# Altium schematic symbol library capacitors.SchLib: 48 symbols
Pins are listed as number, name and electrical type; pins without a type are passive.

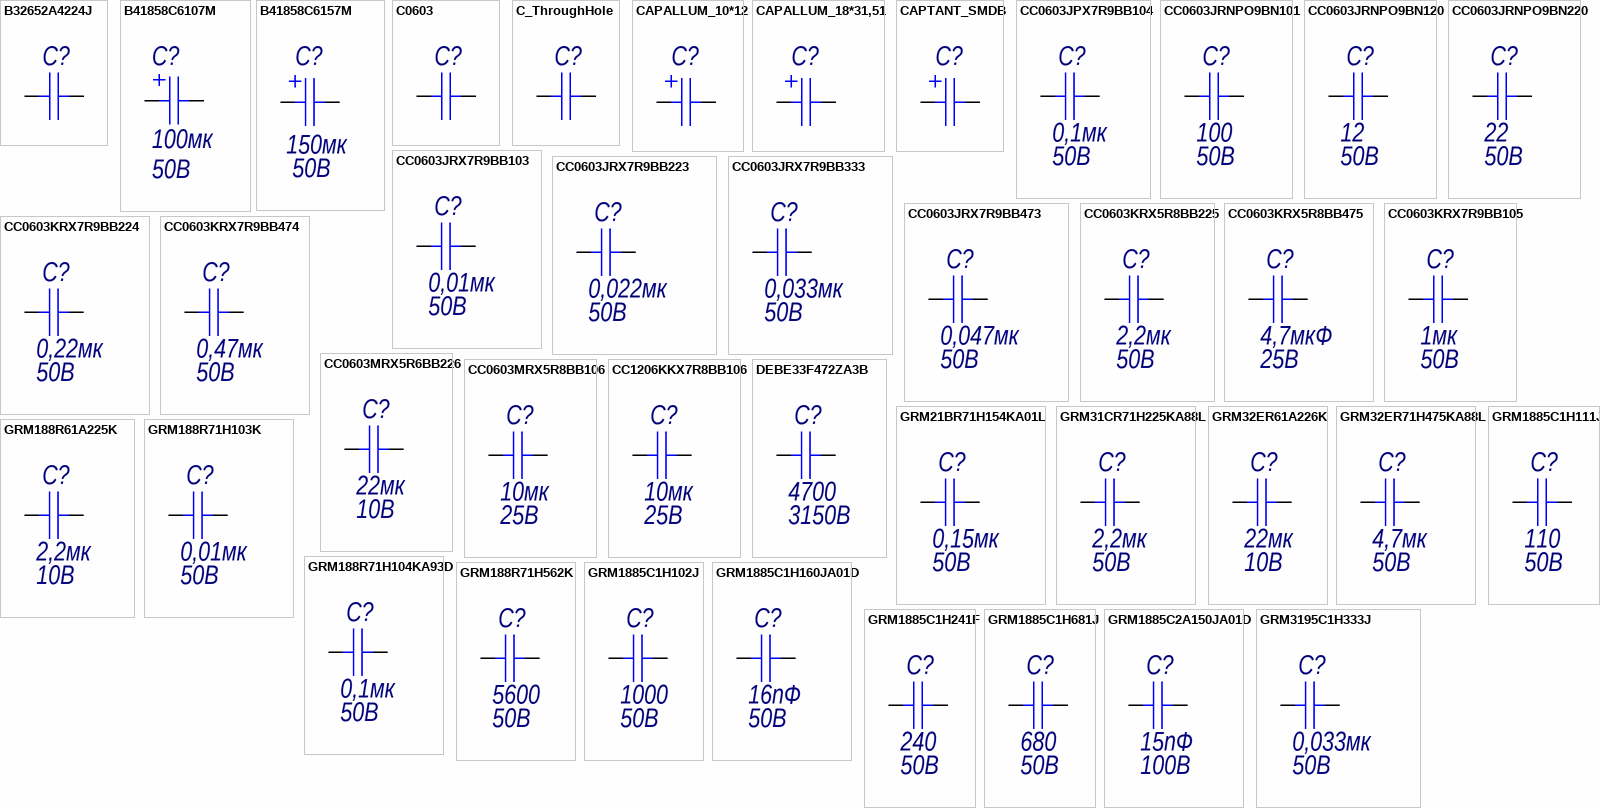
[diagram p0: symbols B32652A4224J to GRM3195C1H333J]

## B32652A4224J
designator C?, comment 0,22мк  (value not drawn)
Конденсатор керамический выводной корпусной; Manufacturer: TDK Epcos; Name: B32652A4224J; Voltage: 400В; TKE: -; Value: 0,22мк
footprint B32652-7x12.5x18 (Конденсатор керамический)
pins: 1, 2

## B41858C6107M
designator C?, comment Voltage: 50В  (hidden comment: 100мк)
Конденсатор эл.лит. алюм. 100мкФ 50В; Manufacturer: EPCOS; Name: B41858C6107; ESR: 0,6Ом; Value: 100мк
footprint CAPALUM_8x11.5 (Электролитический алюминиевый конденсатор с радиальными выводами 8*11.5мм)
footprint CAPALUM_8x11.5_V (Электролитический алюминиевый конденсатор с радиальными выводами 8*11.5мм)
footprint SK050M0100B3F-0811 (8?11)
pins: 1, 2

## B41858C6157M
designator C?, comment Voltage: 50В  (hidden comment: 150мк)
Конденсатор эл.лит. алюм. 150мкФ 50В; Manufacturer: EPCOS; Name: B41858C6157M; ESR: 0,3Ом; Value: 150мк
footprint CAPALUM_10x12.5 (Электролитический алюминиевый конденсатор с радиальными выводами 10*12.5мм)
pins: 1, 2

## C0603
designator C?, comment -  (value not drawn)
Конденсатор керамический 0603; Name: -; Manufacturer: -; TKE: -; Value: -; Voltage: -
footprint C0603 (Chip Capacitor, 2-Leads, Body 1,60x0,80mm, IPC Medium Density)
pins: 1, 2

## C_ThroughHole
designator C?, comment -  (value not drawn)
Конденсатор керамический выводной; Name: -; Manufacturer: -; TKE: -; Value: -; Voltage: -
pins: 1, 2

## CAPALLUM_10*12
designator C?, comment -  (value not drawn)
Конденсатор эл.лит. алюм. 10x12; Name: -; Manufacturer: -; ESR: -; Value: -; Voltage: -
pins: 1, 2

## CAPALLUM_18*31,51
designator C?, comment -  (value not drawn)
Конденсатор эл.лит. алюм. 18x31,5; Name: -; Manufacturer: -; ESR: -; Value: -; Voltage: -
footprint CAPALUM_18x31.5 (Электролитический алюминиевый конденсатор с радиальными выводами 18*31.5мм)
pins: 1, 2

## CAPTANT_SMDB
designator C?, comment -  (value not drawn)
Конденсатор танталовый в корпусе SMDB; Name: -; Manufacturer: -; ESR: -; Value: -; Voltage: -
footprint CAPTANT_B (Chip Capacitor, 2-Leads, Body 3,50x2,80mm, IPC Medium Density)
pins: 1, 2

## CC0603JPX7R9BB104
designator C?, comment Voltage: 50В  (hidden comment: 0,1мк)
Конденсатор кер. 0,1мкФ 50В; Manufacturer: Yageo; Name: CC0603JPX7R9BB104; TKE: X7R; Value: 0,1мк
footprint C0603 (Chip Capacitor, 2-Leads, Body 1,60x0,80mm, IPC Medium Density)
pins: 1, 2

## CC0603JRNPO9BN101
designator C?, comment Voltage: 50В  (hidden comment: 100)
Конденсатор кер. 100пФ 50В; Manufacturer: Yageo; Name: CC0603JRNPO9BN101; TKE: NP0; Value: 100
footprint C0603 (Chip Capacitor, 2-Leads, Body 1,60x0,80mm, IPC Medium Density)
pins: 1, 2

## CC0603JRNPO9BN120
designator C?, comment Voltage: 50В  (hidden comment: 12)
Конденсатор кер. 12пФ 50В; Manufacturer: Yageo; Name: CC0603JRNPO9BN120; TKE: NP0; Value: 12
footprint C0603 (Chip Capacitor, 2-Leads, Body 1,60x0,80mm, IPC Medium Density)
pins: 1, 2

## CC0603JRNPO9BN220
designator C?, comment Voltage: 50В  (hidden comment: 22)
Конденсатор кер. 22пФ 50В; Manufacturer: Yageo; Name: CC0603JRNPO9BN220; TKE: NP0; Value: 22
footprint C0603 (Chip Capacitor, 2-Leads, Body 1,60x0,80mm, IPC Medium Density)
pins: 1, 2

## CC0603JRX7R9BB103
designator C?, comment Voltage: 50В  (hidden comment: 0,01мк)
Конденсатор кер. 0,01мкФ 50В; Manufacturer: Yageo; Name: CC0603JRX7R9BB103; TKE: X7R; Value: 0,01мк
footprint C0603 (Chip Capacitor, 2-Leads, Body 1,60x0,80mm, IPC Medium Density)
pins: 1, 2

## CC0603JRX7R9BB223
designator C?, comment Voltage: 50В  (hidden comment: 0,022мк)
Конденсатор кер. 0,022мкФ 50В; Manufacturer: Yageo; Name: CC0603JRX7R9BB223; TKE: X7R; Value: 0,022мк
footprint C0603 (Chip Capacitor, 2-Leads, Body 1,60x0,80mm, IPC Medium Density)
pins: 1, 2

## CC0603JRX7R9BB333
designator C?, comment Voltage: 50В  (hidden comment: 0,033мк)
Конденсатор кер. 0,033мкФ 50В; Manufacturer: Yageo; Name: CC0603JRX7R9BB333; TKE: X7R; Value: 0,033мк
footprint C0603 (Chip Capacitor, 2-Leads, Body 1,60x0,80mm, IPC Medium Density)
pins: 1, 2

## CC0603JRX7R9BB473
designator C?, comment Voltage: 50В  (hidden comment: 0,047мк)
Конденсатор кер. 0,047мкФ 50В; Manufacturer: Yageo; Name: CC0603JRX7R9BB473; TKE: X7R; Value: 0,047мк
footprint C0603 (Chip Capacitor, 2-Leads, Body 1,60x0,80mm, IPC Medium Density)
pins: 1, 2

## CC0603KRX5R8BB225
designator C?, comment Voltage: 50В  (hidden comment: 2,2мк)
Конденсатор кер. 2,2мкФ 25В; Manufacturer: Yageo; Name: CC0603KRX5R8BB225; TKE: X5R; Value: 2,2мк
footprint C0603 (Chip Capacitor, 2-Leads, Body 1,60x0,80mm, IPC Medium Density)
pins: 1, 2

## CC0603KRX5R8BB475
designator C?, comment Voltage: 25В  (hidden comment: 4,7мкФ)
Конденсатор кер. 4,7мкФ 25В; Manufacturer: Yageo; Name: CC0603KRX5R8BB475; TKE: X7R; Value: 4,7мкФ
footprint C0603 (Chip Capacitor, 2-Leads, Body 1,60x0,80mm, IPC Medium Density)
pins: 1, 2

## CC0603KRX7R9BB105
designator C?, comment Voltage: 50В  (hidden comment: 1мк)
Конденсатор кер. 1мкФ 50В; Manufacturer: Yageo; Name: CC0603KRX7R9BB105; TKE: X7R; Value: 1мк
footprint C0603 (Chip Capacitor, 2-Leads, Body 1,60x0,80mm, IPC Medium Density)
pins: 1, 2

## CC0603KRX7R9BB224
designator C?, comment Voltage: 50В  (hidden comment: 0,22мк)
Конденсатор кер. 0,22мкФ 50В; Manufacturer: Yageo; Name: CC0603KRX7R9BB224; TKE: X7R; Value: 0,22мк
footprint C0603 (Chip Capacitor, 2-Leads, Body 1,60x0,80mm, IPC Medium Density)
pins: 1, 2

## CC0603KRX7R9BB474
designator C?, comment Voltage: 50В  (hidden comment: 0,47мк)
Конденсатор кер. 0,47мкФ 50В; Manufacturer: Yageo; Name: CC0603KRX7R9BB474; TKE: X7R; Value: 0,47мк
footprint C0603 (Chip Capacitor, 2-Leads, Body 1,60x0,80mm, IPC Medium Density)
pins: 1, 2

## CC0603MRX5R6BB226
designator C?, comment Voltage: 10В  (hidden comment: 22мк)
Конденсатор кер. 22мкФ 10В; Manufacturer: Yageo; Name: CC0603MRX5R6BB226; TKE: X7R; Value: 22мк
footprint C0603 (Chip Capacitor, 2-Leads, Body 1,60x0,80mm, IPC Medium Density)
pins: 1, 2

## CC0603MRX5R8BB106
designator C?, comment Voltage: 25В  (hidden comment: 10мк)
Конденсатор кер. 10мкФ 25В; Manufacturer: Yageo; Name: CC0603MRX5R8BB106; TKE: X7R; Value: 10мк
footprint C0603 (Chip Capacitor, 2-Leads, Body 1,60x0,80mm, IPC Medium Density)
pins: 1, 2

## CC1206KKX7R8BB106
designator C?, comment Voltage: 25В  (hidden comment: 10мк)
Конденсатор кер. 10мкФ 25В; Manufacturer: Yageo; Name: CC1206KKX7R8BB106; TKE: X7R; Value: 10мк
footprint C1206 (Chip Capacitor, 2-Leads, Body 3,20x1,60mm, IPC Medium Density)
pins: 1, 2

## DEBE33F472ZA3B
designator C?, comment Voltage: 3150В  (hidden comment: 4700)
Конденсатор керамический высоковольтный выводной; Manufacturer: Murata; Name: DEBE33F472ZA3B; TKE: -; Value: 4700
pins: 1, 2

## GRM21BR71H154KA01L
designator C?, comment Voltage: 50В  (hidden comment: 0,15мк)
Конденсатор кер. 0,15мкФ 50В X7R; Manufacturer: Murata; Name: GRM21BR71H154KA01L; TKE: X7R; Value: 0,15мк
footprint C0603 (Chip Capacitor, 2-Leads, Body 1,60x0,80mm, IPC Medium Density)
pins: 1, 2

## GRM31CR71H225KA88L
designator C?, comment Voltage: 50В  (hidden comment: 2,2мк)
Конденсатор кер. 2,2мкФ 50В X7R; Manufacturer: Murata; Name: GRM31CR71H225KA88L; TKE: X7R; Value: 2,2мк
pins: 1, 2

## GRM32ER61A226K
designator C?, comment Voltage: 10В  (hidden comment: 22мк)
Конденсатор кер. 22мкФ 10В X5R; Manufacturer: Murata; Name: GRM32ER61A226K; TKE: X5R; Value: 22мк
footprint C1210 (Chip Capacitor, 2-Leads, Body 3,20x2,50mm, IPC Medium Density)
pins: 1, 2

## GRM32ER71H475KA88L
designator C?, comment Voltage: 50В  (hidden comment: 4,7мк)
Конденсатор кер. 4,7мкФ 50В X7R; Manufacturer: Murata; Name: GRM32ER71H475KA88L; TKE: X7R; Value: 4,7мк
footprint C1210 (Chip Capacitor, 2-Leads, Body 3,20x2,50mm, IPC Medium Density)
pins: 1, 2

## GRM188R61A225K
designator C?, comment Voltage: 10В  (hidden comment: 2,2мк)
Конденсатор кер. 2,2мкФ 10В X5R; Manufacturer: Murata; Name: GRM188R61A225K; TKE: X5R; Value: 2,2мк
footprint C0603 (Chip Capacitor, 2-Leads, Body 1,60x0,80mm, IPC Medium Density)
pins: 1, 2

## GRM188R71H103K
designator C?, comment Voltage: 50В  (hidden comment: 0,01мк)
Конденсатор кер. 0,01мкФ 50В X7R; Manufacturer: Murata; Name: GRM188R71H103K; TKE: X7R; Value: 0,01мк
footprint C0603 (Chip Capacitor, 2-Leads, Body 1,60x0,80mm, IPC Medium Density)
pins: 1, 2

## GRM188R71H104KA93D
designator C?, comment Voltage: 50В  (hidden comment: 0,1мк)
Конденсатор кер. 0,1мкФ 50В X7R; Manufacturer: Murata; Name: GRM188R71H104KA93D; TKE: X7R; Value: 0,1мк
footprint C0603 (Chip Capacitor, 2-Leads, Body 1,60x0,80mm, IPC Medium Density)
pins: 1, 2

## GRM188R71H562K
designator C?, comment Voltage: 50В  (hidden comment: 5600)
Конденсатор кер. 5600пФ 50В X7R; Manufacturer: Murata; Name: GRM188R71H562K; TKE: X7R; Value: 5600
footprint C0603 (Chip Capacitor, 2-Leads, Body 1,60x0,80mm, IPC Medium Density)
pins: 1, 2

## GRM1885C1H102J
designator C?, comment Voltage: 50В  (hidden comment: 1000)
Конденсатор кер. 1000пФ 50В NP0; Manufacturer: Murata; Name: GRM1885C1H102J; TKE: NP0; Value: 1000
footprint C0603 (Chip Capacitor, 2-Leads, Body 1,60x0,80mm, IPC Medium Density)
pins: 1, 2

## GRM1885C1H111J
designator C?, comment Voltage: 50В  (hidden comment: 110)
Конденсатор кер. 110 пФ 50В NP0; Manufacturer: Murata; Name: GRM1885C1H111J; TKE: NP0; Value: 110
footprint C0603 (Chip Capacitor, 2-Leads, Body 1,60x0,80mm, IPC Medium Density)
pins: 1, 2

## GRM1885C1H160JA01D
designator C?, comment Voltage: 50В  (hidden comment: 16пФ)
Конденсатор кер. 16пФ 50В NP0; Manufacturer: Murata; Name: GRM1885C1H160JA01D; TKE: NP0; Value: 16пФ
footprint C0603 (Chip Capacitor, 2-Leads, Body 1,60x0,80mm, IPC Medium Density)
pins: 1, 2

## GRM1885C1H241F
designator C?, comment Voltage: 50В  (hidden comment: 240)
Конденсатор кер. 240пФ 50В NP0; Manufacturer: Murata; Name: GRM1885C1H241F; TKE: NP0; Value: 240
footprint C0603 (Chip Capacitor, 2-Leads, Body 1,60x0,80mm, IPC Medium Density)
pins: 1, 2

## GRM1885C1H681J
designator C?, comment Voltage: 50В  (hidden comment: 680)
Конденсатор кер. 680пФ 50В NP0; Manufacturer: Murata; Name: GRM1885C1H681J; TKE: NP0; Value: 680
footprint C0603 (Chip Capacitor, 2-Leads, Body 1,60x0,80mm, IPC Medium Density)
pins: 1, 2

## GRM1885C2A150JA01D
designator C?, comment Voltage: 100В  (hidden comment: 15пФ)
Конденсатор кер. 15пФ 100В NP0; Manufacturer: Murata; Name: GRM1885C2A150JA01D; TKE: NP0; Value: 15пФ
footprint C0603 (Chip Capacitor, 2-Leads, Body 1,60x0,80mm, IPC Medium Density)
pins: 1, 2

## GRM3195C1H333J
designator C?, comment Voltage: 50В  (hidden comment: 0,033мк)
Конденсатор кер. 0,033мкФ 50В NP0; Manufacturer: Murata; Name: GRM3195C1H333J; TKE: NP0; Value: 0,033мк
footprint C1206 (Chip Capacitor, 2-Leads, Body 3,20x1,60mm, IPC Medium Density)
pins: 1, 2

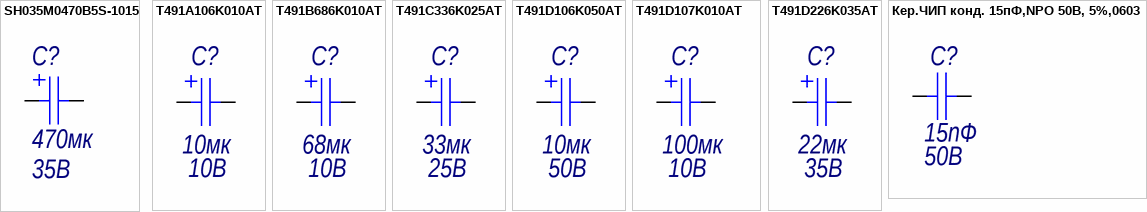
[diagram p1: symbols SH035M0470B5S-1015 to Кер.ЧИП конд. 15пФ,NPO 50В, 5%,0603]

## SH035M0470B5S-1015
designator C?, comment Voltage: 35В  (hidden comment: 470мк)
Конденсатор эл.лит. алюм. 470мкФ 35В; Manufacturer: Yageo; Name: B41858C6107; ESR: 0,6Ом; Value: 470мк
footprint SH035M0470B5S-1015 (10x15)
pins: 1, 2

## T491A106K010AT
designator C?, comment Voltage: 10В  (hidden comment: 10мк)
Конденсатор тант. 10мкФ 10В 20%; Manufacturer: Kemet; Name: T491A106K010AT; ESR: 3,4 Ом; Value: 10мк
footprint CAPTANT_A
pins: 1, 2

## T491B686K010AT
designator C?, comment Voltage: 10В  (hidden comment: 68мк)
Конденсатор тант. 68мкФ 10В; Manufacturer: Kemet; Name: T491B686K010AT; ESR: 3Ом; Value: 68мк
footprint CAPTANT_B (Chip Capacitor, 2-Leads, Body 3,50x2,80mm, IPC Medium Density)
pins: 1, 2

## T491C336K025AT
designator C?, comment Voltage: 25В  (hidden comment: 33мк)
Конденсатор тант. 33мкФ 25В 20%; Manufacturer: Kemet; Name: T491C336K025AT; ESR: 0,9 Ом; Value: 33мк
footprint CAPTANT_C (Molded Capacitor, 2-Leads, Body 6,00x3,20mm, IPC Medium Density)
pins: 1, 2

## T491D106K050AT
designator C?, comment Voltage: 50В  (hidden comment: 10мк)
Конденсатор тант. 10мкФ 50В; Manufacturer: KEMET; Name: T491D106K050AT; ESR: 0,8 Ом; Value: 10мк
pins: 1, 2

## T491D107K010AT
designator C?, comment Voltage: 10В  (hidden comment: 100мк)
Конденсатор тант. 100мкФ 10В; Manufacturer: Kemet; Name: T491D107K010AT; ESR: 0,7Ом; Value: 100мк
footprint CAPTANT_D (Molded Capacitor, 2-Leads, Body 7,30x4,30mm, IPC Medium Density)
pins: 1, 2

## T491D226K035AT
designator C?, comment Voltage: 35В  (hidden comment: 22мк)
Конденсатор тант. 22мкФ 35В; Manufacturer: KEMET; Name: T491D226K035AT; ESR: 0,7 Ом; Value: 22мк
pins: 1, 2

## Кер.ЧИП конд. 15пФ,NPO 50В, 5%,0603
designator C?, comment Voltage: 50В  (hidden comment: 15пФ)
Кер.ЧИП конд. 15пФ,NPO 50В, 5%,0603; Manufacturer: ChipDip; Name: Кер.ЧИП конд. 15пФ,NPO 50В, 5%,0603; Value: 15пФ
footprint C0603 (Chip Capacitor, 2-Leads, Body 1,60x0,80mm, IPC Medium Density)
pins: 1, 2